# EAGLE library part MOLEX_52437-2471 (library Upverter Library)
MOLX-52437-2471
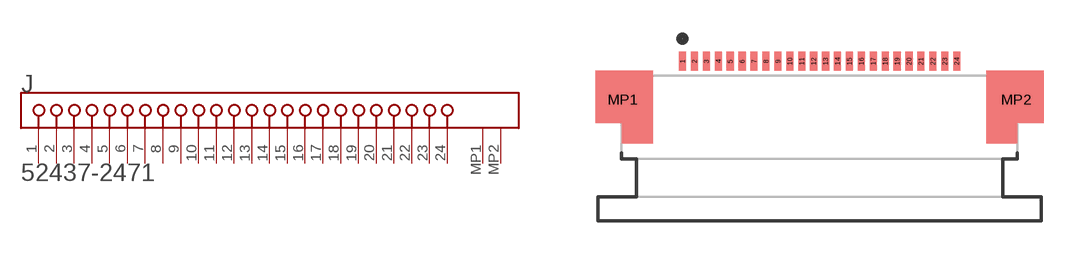
[diagram p0: symbol with the pads of MOLEX_52437-2471_0; footprint MOLEX_52437-2471_0]

Designator prefix J

## MOLEX_52437-2471MOLEX_52437-2471_0_0 (Circuits_Loaded: 24; Component_Link_1_Description: Manufacturer URL; Component_Link_1_URL: http://www.molex.com/molex/index.jsp; Component_Link_3_Description: Package Specification; Component_Link_3_URL: http://www.molex.com/pdm_docs/sd/524372471_sd.pdf; Contact_Position: Bottom; Current_Max_per_Contact: 0.5A; Durability_mating_cycles_max: 20; Entry_Angle: 90degrees Angle; MF: Molex; MPN: 52437-2471; Material___Metal: Phosphor Bronze; Material___Plating_Mating: Gold; Material___Plating_Termination: Gold; Mounting_Technology: Surface Mount; Number_of_Rows: 1; Orientation: Right Angle; PCB_Locator: No; PCB_Retention: None; Package_Description: 24-Lead FPC Connector, Pitch 0.5 mm; Package_Version: Rev. E, 07/2013; Packing: Tape and Reel; Pitch___Mating_Interface: 0.50mm; Polarized_to_PCB: Yes; Stackable: No; Voltage_Max: 50V; ciiva_ids: 605212; datasheet: http://www.molex.com/webdocs/datasheets/pdf/en-us/0524372471_FFC_FPC_CONNECTORS.pdf; footprint_variant_name_0: Manufacturer Recommended; import_ts: 1521869192; imported: yes; imported_from: vault; package: 52437-2471; prefix: J; release_date: 1411372502; rohs: Yes; vault_guid: C435F480-C5D6-47A9-8B3E-1F527B5FE02A; vault_revision: D1E34D73-9D44-46B4-956C-D39459EFC8BE)  [MOLEX_52437-2471_0]
1  1  pas
2  2  pas
3  3  pas
4  4  pas
5  5  pas
6  6  pas
7  7  pas
8  8  pas
9  9  pas
10  10  pas
11  11  pas
12  12  pas
13  13  pas
14  14  pas
15  15  pas
16  16  pas
17  17  pas
18  18  pas
19  19  pas
20  20  pas
21  21  pas
22  22  pas
23  23  pas
24  24  pas
MP1  MP1  pas
MP2  MP2  pas

## Footprint MOLEX_52437-2471_0 (pad centres in mm)
MOLX-52437-2471
smd 0.3 x 0.8: 1 -5.75,0.8; 2 -5.25,0.8; 3 -4.75,0.8; 4 -4.25,0.8; 5 -3.75,0.8; 6 -3.25,0.8; 7 -2.75,0.8; 8 -2.25,0.8; 9 -1.75,0.8; 10 -1.25,0.8; 11 -0.75,0.8; 12 -0.25,0.8; 13 0.25,0.8; 14 0.75,0.8; 15 1.25,0.8; 16 1.75,0.8; 17 2.25,0.8; 18 2.75,0.8; 19 3.25,0.8; 20 3.75,0.8; 21 4.25,0.8; 22 4.75,0.8; 23 5.25,0.8; 24 5.75,0.8
smd 1 x 1: MP1 -8.25,-0.8; MP2 8.25,-0.8